# Altium schematic symbol library MCU_NXP_HC12.SchLib: 2 symbols
Pins are listed as number, name and electrical type; pins without a type are passive.

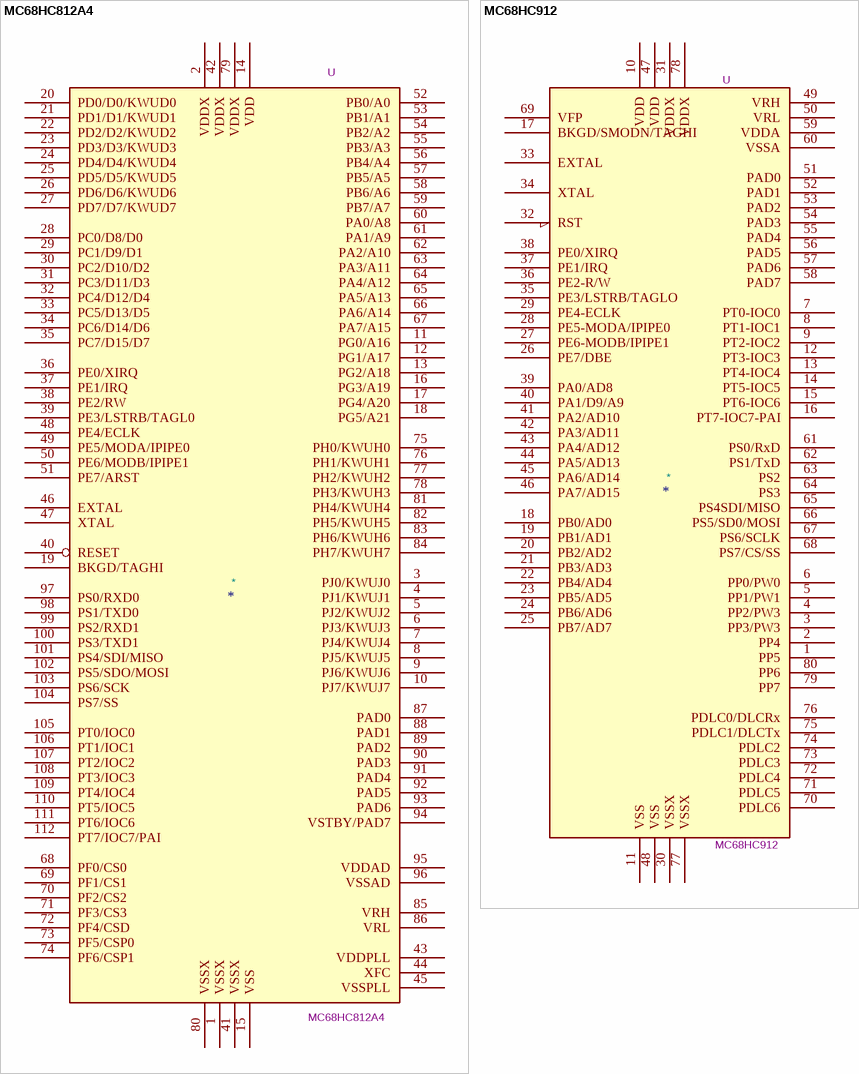
[diagram p0: symbols MC68HC812A4 to MC68HC912]

## MC68HC812A4
designator *  value MC68HC812A4  Reference: U
ki_keywords: 68HC12 Microcontroller; ki_description: HC12 Microcontroller 112 pins
pins: 1 VSSX, 2 VDDX, 3 PJ0/KWUJ0, 4 PJ1/KWUJ1, 5 PJ2/KWUJ2, 6 PJ3/KWUJ3, 7 PJ4/KWUJ4, 8 PJ5/KWUJ5, 9 PJ6/KWUJ6, 10 PJ7/KWUJ7, 11 PG0/A16, 12 PG1/A17, 13 PG2/A18, 14 VDD, 15 VSS, 16 PG3/A19, 17 PG4/A20, 18 PG5/A21, 19 BKGD/TAGHI, 20 PD0/D0/KWUD0, 21 PD1/D1/KWUD1, 22 PD2/D2/KWUD2, 23 PD3/D3/KWUD3, 24 PD4/D4/KWUD4, 25 PD5/D5/KWUD5, 26 PD6/D6/KWUD6, 27 PD7/D7/KWUD7, 28 PC0/D8/D0, 29 PC1/D9/D1, 30 PC2/D10/D2, 31 PC3/D11/D3, 32 PC4/D12/D4, 33 PC5/D13/D5, 34 PC6/D14/D6, 35 PC7/D15/D7, 36 PE0/XIRQ, 37 PE1/IRQ, 38 PE2/RW, 39 PE3/LSTRB/TAGL0, 40 RESET, 41 VSSX, 42 VDDX, 43 VDDPLL, 44 XFC, 45 VSSPLL, 46 EXTAL, 47 XTAL, 48 PE4/ECLK, 49 PE5/MODA/IPIPE0, 50 PE6/MODB/IPIPE1, 51 PE7/ARST, 52 PB0/A0, 53 PB1/A1, 54 PB2/A2, 55 PB3/A3, 56 PB4/A4, 57 PB5/A5, 58 PB6/A6, 59 PB7/A7, 60 PA0/A8, 61 PA1/A9, 62 PA2/A10, 63 PA3/A11, 64 PA4/A12, 65 PA5/A13, 66 PA6/A14, 67 PA7/A15, 68 PF0/CS0, 69 PF1/CS1, 70 PF2/CS2, 71 PF3/CS3, 72 PF4/CSD, 73 PF5/CSP0, 74 PF6/CSP1, 75 PH0/KWUH0, 76 PH1/KWUH1, 77 PH2/KWUH2, 78 PH3/KWUH3, 79 VDDX, 80 VSSX, 81 PH4/KWUH4, 82 PH5/KWUH5, 83 PH6/KWUH6, 84 PH7/KWUH7, 85 VRH, 86 VRL, 87 PAD0, 88 PAD1, 89 PAD2, 90 PAD3, 91 PAD4, 92 PAD5, 93 PAD6, 94 VSTBY/PAD7, 95 VDDAD, 96 VSSAD, 97 PS0/RXD0, 98 PS1/TXD0, 99 PS2/RXD1, 100 PS3/TXD1, 101 PS4/SDI/MISO, 102 PS5/SDO/MOSI, 103 PS6/SCK, 104 PS7/SS, 105 PT0/IOC0, 106 PT1/IOC1, 107 PT2/IOC2, 108 PT3/IOC3, 109 PT4/IOC4, 110 PT5/IOC5, 111 PT6/IOC6, 112 PT7/IOC7/PAI

## MC68HC912
designator *  value MC68HC912  Reference: U
ki_keywords: 68HC12 Microcontroller; ki_description: HC12 Microcontroller
pins: 1 PP5, 2 PP4, 3 PP3/PW3, 4 PP2/PW3, 5 PP1/PW1, 6 PP0/PW0, 7 PT0-IOC0, 8 PT1-IOC1, 9 PT2-IOC2, 10 VDD, 11 VSS, 12 PT3-IOC3, 13 PT4-IOC4, 14 PT5-IOC5, 15 PT6-IOC6, 16 PT7-IOC7-PAI, 17 BKGD/SMODN/TAGHI, 18 PB0/AD0, 19 PB1/AD1, 20 PB2/AD2, 21 PB3/AD3, 22 PB4/AD4, 23 PB5/AD5, 24 PB6/AD6, 25 PB7/AD7, 26 PE7/DBE, 27 PE6-MODB/IPIPE1, 28 PE5-MODA/IPIPE0, 29 PE4-ECLK, 30 VSSX, 31 VDDX, 32 RST, 33 EXTAL, 34 XTAL, 35 PE3/LSTRB/TAGLO, 36 PE2-R/W, 37 PE1/IRQ, 38 PE0/XIRQ, 39 PA0/AD8, 40 PA1/D9/A9, 41 PA2/AD10, 42 PA3/AD11, 43 PA4/AD12, 44 PA5/AD13, 45 PA6/AD14, 46 PA7/AD15, 47 VDD, 48 VSS, 49 VRH, 50 VRL, 51 PAD0, 52 PAD1, 53 PAD2, 54 PAD3, 55 PAD4, 56 PAD5, 57 PAD6, 58 PAD7, 59 VDDA, 60 VSSA, 61 PS0/RxD, 62 PS1/TxD, 63 PS2, 64 PS3, 65 PS4SDI/MISO, 66 PS5/SD0/MOSI, 67 PS6/SCLK, 68 PS7/CS/SS, 69 VFP, 70 PDLC6, 71 PDLC5, 72 PDLC4, 73 PDLC3, 74 PDLC2, 75 PDLC1/DLCTx, 76 PDLC0/DLCRx, 77 VSSX, 78 VDDX, 79 PP7, 80 PP6